# EAGLE library part IDC-14 (library common)
CONNECTOR 10-pin series 057 contact pc board low profile headers
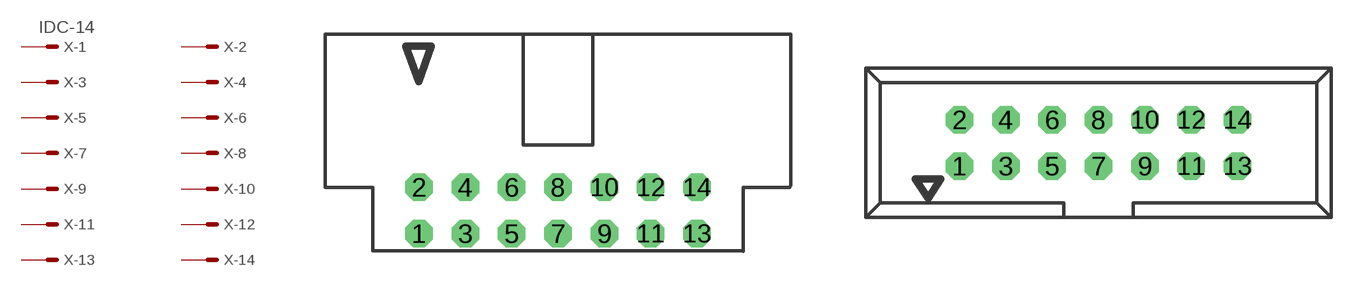
[diagram p16: symbol with the pads of IDC-014-0; footprints IDC-014-0, 057-014-1]

Designator prefix X; gates -1=MV-1 -2=M-1 -3=M-1 -4=M-1 -5=M-1 -6=M-1 -7=M-1 -8=M-1 -9=M-1 -10=M-1 -11=M-1 -12=M-1 -13=M-1 -14=M-1

## IDC-140 (OC_FARNELL: unknown; OC_NEWARK: unknown)  [IDC-014-0]
1  -1:S  pas
2  -2:S  pas
3  -3:S  pas
4  -4:S  pas
5  -5:S  pas
6  -6:S  pas
7  -7:S  pas
8  -8:S  pas
9  -9:S  pas
10  -10:S  pas
11  -11:S  pas
12  -12:S  pas
13  -13:S  pas
14  -14:S  pas

## IDC-141 (OC_FARNELL: unknown; OC_NEWARK: unknown)  [057-014-1]
Pads as for IDC-014-0

## IDC-140C  [IDC-014-0-CROSS]
Pads as for IDC-014-0

## Footprint IDC-014-0 (pad centres in mm)
CONNECTOR series 057 contact pc board low profile headers angled
drill 1 octagon: 1 -7.62,-5.08; 2 -7.62,-2.54; 3 -5.08,-5.08; 4 -5.08,-2.54; 5 -2.54,-5.08; 6 -2.54,-2.54; 7 0,-5.08; 8 0,-2.54; 9 2.54,-5.08; 10 2.54,-2.54; 11 5.08,-5.08; 12 5.08,-2.54; 13 7.62,-5.08; 14 7.62,-2.54

## Footprint 057-014-1 (pad centres in mm)
CONNECTOR series 057 contact pc board low profile headers straight
drill 1 octagon: 1 -7.62,-1.27; 2 -7.62,1.27; 3 -5.08,-1.27; 4 -5.08,1.27; 5 -2.54,-1.27; 6 -2.54,1.27; 7 0,-1.27; 8 0,1.27; 9 2.54,-1.27; 10 2.54,1.27; 11 5.08,-1.27; 12 5.08,1.27; 13 7.62,-1.27; 14 7.62,1.27

## Footprint IDC-014-0-CROSS (pad centres in mm)
CONNECTOR series 057 contact pc board low profile headers angled
drill 1 octagon: 1 7.62,-2.54; 2 7.62,-5.08; 3 5.08,-2.54; 4 5.08,-5.08; 5 2.54,-2.54; 6 2.54,-5.08; 7 0,-2.54; 8 0,-5.08; 9 -2.54,-2.54; 10 -2.54,-5.08; 11 -5.08,-2.54; 12 -5.08,-5.08; 13 -7.62,-2.54; 14 -7.62,-5.08